# Altium integrated library TPS62080ADSGT.IntLib: 2 symbols
Pins are listed as number, name and electrical type; pins without a type are passive.

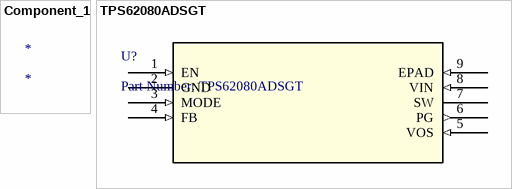
[diagram p0: symbols Component_1 to TPS62080ADSGT]

## Component_1
designator *

## TPS62080ADSGT
designator U?, comment Part Number: TPS62080ADSGT
No Description Available; Vendor: Texas Instruments; Built_By: EMA_UL_Team; Manufacturer_Part_Number: TPS62080ADSGT; Copyright: Copyright (C) 2018 Accelerated Designs. All rights reserved; RefDes: RefDes; Type: DEV; Value: Value
footprint DSG8_1P6X0P9
pins: 1 EN (in), 2 GND (power), 3 MODE (in), 4 FB (in), 5 VOS (in), 6 PG (out), 7 SW (power), 8 VIN (in), 9 EPAD (in)